# EAGLE library part LP2986AIMM-1 (library LP2986AIMM)
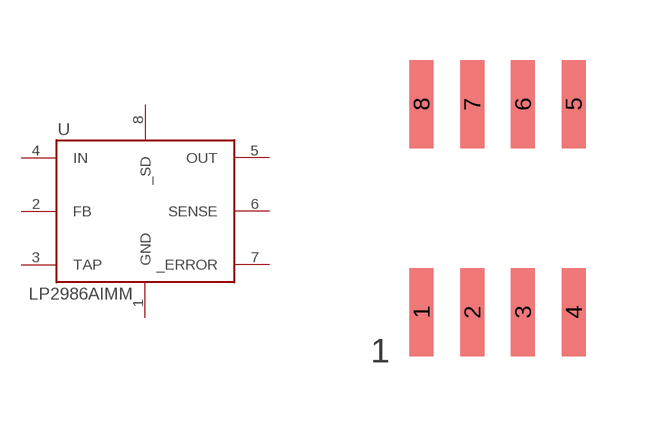
[diagram p1: symbol with the pads of M08A; footprint M08A]

Designator prefix -

## LP2986AIMM-1  [M08A]
1  GND
2  FB
3  TAP
4  IN
5  OUT
6  SENSE
7  _ERROR
8  _SD

## Footprint M08A (pad centres in mm)
smd 0.6 x 2.2: 1 0,0; 2 1.27,0; 3 2.54,0; 4 3.81,0; 5 3.81,5.2; 6 2.54,5.2; 7 1.27,5.2; 8 0,5.2